# EAGLE library part DM9000 (library BaseApp)
DM9000 ISA TO ETHERNET MAC CONTROLLER WITH INTEGRATED 10/100 PHY http://in.element14.com/davicom/dm9000ep/ic-enet-cntrl-10-100m-phy-100lqfp/dp/2115482?Ntt=dm9000
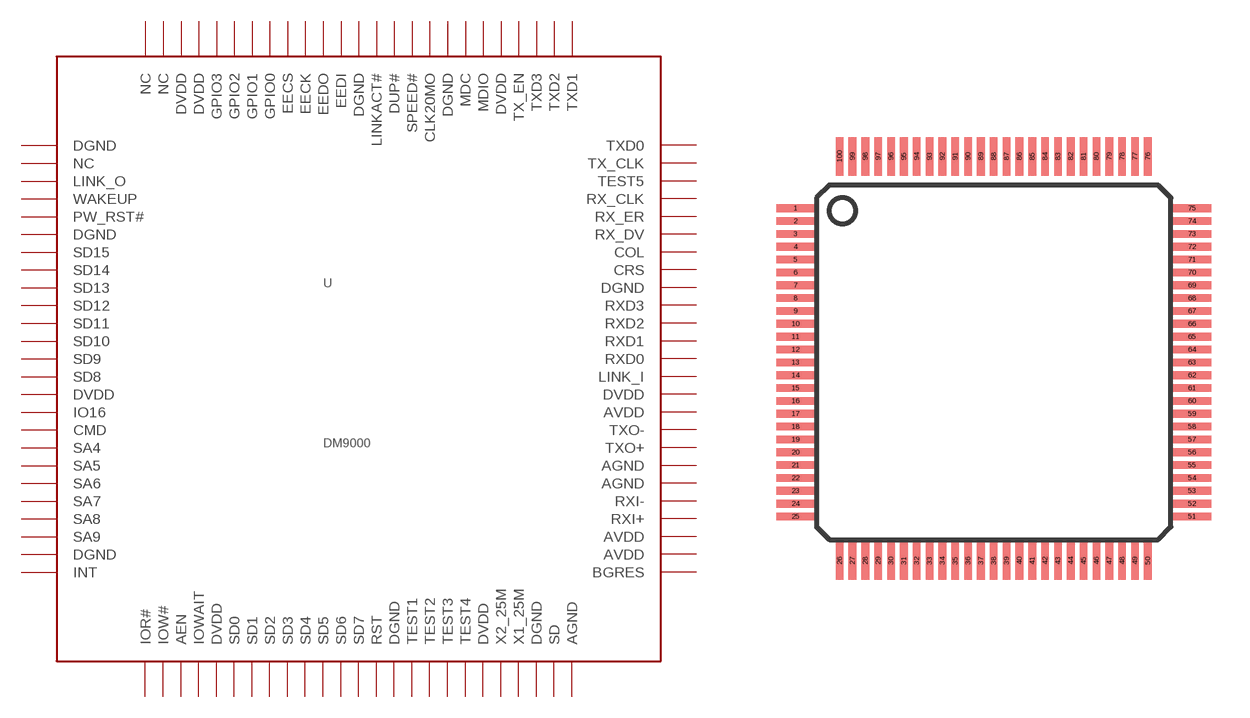
[diagram p5: symbol with the pads of 100LQFP; footprint 100LQFP]

Designator prefix -

## DM9000  [100LQFP]
1  IOR#
2  IOW#
3  AEN
4  IOWAIT
5  DVDD
6  SD0
7  SD1
8  SD2
9  SD3
10  SD4
11  SD5
12  SD6
13  SD7
14  RST
15  DGND
16  TEST1
17  TEST2
18  TEST3
19  TEST4
20  DVDD  pwr
21  X2_25M
22  X1_25M
23  DGND
24  SD
25  AGND
26  BGRES
27  AVDD
28  AVDD
29  RXI+
30  RXI-
31  AGND
32  AGND
33  TXO+
34  TXO-
35  AVDD
36  DVDD
37  LINK_I
38  RXD0
39  RXD1
40  RXD2
41  RXD3
42  DGND
43  CRS
44  COL
45  RX_DV
46  RX_ER
47  RX_CLK
48  TEST5
49  TX_CLK
50  TXD0
51  TXD1
52  TXD2
53  TXD3
54  TX_EN
55  DVDD
56  MDIO
57  MDC
58  DGND
59  CLK20MO
60  SPEED#
61  DUP#
62  LINKACT#
63  DGND
64  EEDI
65  EEDO
66  EECK
67  EECS
68  GPIO0
69  GPIO1
70  GPIO2
71  GPIO3
72  DVDD
73  DVDD
74  NC
75  NC
76  DGND
77  NC
78  LINK_O
79  WAKEUP
80  PW_RST#
81  DGND
82  SD15
83  SD14
84  SD13
85  SD12
86  SD11
87  SD10
88  SD9
89  SD8
90  DVDD
91  IO16
92  CMD
93  SA4
94  SA5
95  SA6
96  SA7
97  SA8
98  SA9
99  DGND
100  INT

## Footprint 100LQFP (pad centres in mm)
smd 1.5 x 0.3: 1 -6.18,9.08; 2 -6.18,8.58; 3 -6.18,8.08; 4 -6.18,7.58; 5 -6.18,7.08; 6 -6.18,6.58; 7 -6.18,6.08; 8 -6.18,5.58; 9 -6.18,5.08; 10 -6.18,4.58; 11 -6.18,4.08; 12 -6.18,3.58; 13 -6.18,3.08; 14 -6.18,2.58; 15 -6.18,2.08; 16 -6.18,1.58; 17 -6.18,1.08; 18 -6.18,0.58; 19 -6.18,0.08; 20 -6.18,-0.42; 21 -6.18,-0.92; 22 -6.18,-1.42; 23 -6.18,-1.92; 24 -6.18,-2.42; 25 -6.18,-2.92; 51 9.26,-2.92; 52 9.26,-2.42; 53 9.26,-1.92; 54 9.26,-1.42; 55 9.26,-0.92; 56 9.26,-0.42; 57 9.26,0.08; 58 9.26,0.58; 59 9.26,1.08; 60 9.26,1.58; 61 9.26,2.08; 62 9.26,2.58; 63 9.26,3.08; 64 9.26,3.58; 65 9.26,4.08; 66 9.26,4.58; 67 9.26,5.08; 68 9.26,5.58; 69 9.26,6.08; 70 9.26,6.58; 71 9.26,7.08; 72 9.26,7.58; 73 9.26,8.08; 74 9.26,8.58; 75 9.26,9.08
smd 0.3 x 1.5: 26 -4.46,-4.64; 27 -3.96,-4.64; 28 -3.46,-4.64; 29 -2.96,-4.64; 30 -2.46,-4.64; 31 -1.96,-4.64; 32 -1.46,-4.64; 33 -0.96,-4.64; 34 -0.46,-4.64; 35 0.04,-4.64; 36 0.54,-4.64; 37 1.04,-4.64; 38 1.54,-4.64; 39 2.04,-4.64; 40 2.54,-4.64; 41 3.04,-4.64; 42 3.54,-4.64; 43 4.04,-4.64; 44 4.54,-4.64; 45 5.04,-4.64; 46 5.54,-4.64; 47 6.04,-4.64; 48 6.54,-4.64; 49 7.04,-4.64; 50 7.54,-4.64; 76 7.54,11.1; 77 7.04,11.1; 78 6.54,11.1; 79 6.04,11.1; 80 5.54,11.1; 81 5.04,11.1; 82 4.54,11.1; 83 4.04,11.1; 84 3.54,11.1; 85 3.04,11.1; 86 2.54,11.1; 87 2.04,11.1; 88 1.54,11.1; 89 1.04,11.1; 90 0.54,11.1; 91 0.04,11.1; 92 -0.46,11.1; 93 -0.96,11.1; 94 -1.46,11.1; 95 -1.96,11.1; 96 -2.46,11.1; 97 -2.96,11.1; 98 -3.46,11.1; 99 -3.96,11.1; 100 -4.46,11.1